# Altium footprint library PrISUm-Connectors.PcbLib: 40 footprints (part 1 of 3)
Each footprint in its own frame and in the unit in brackets; x right, y up, seen from the top. Pads: shape width x height; smd on the part's side, far side on the other; paste and mask are expansions set on the pad; w line width, h text height; cw(c..) or ccw(c..) is an arc to the next point about the centre after c.
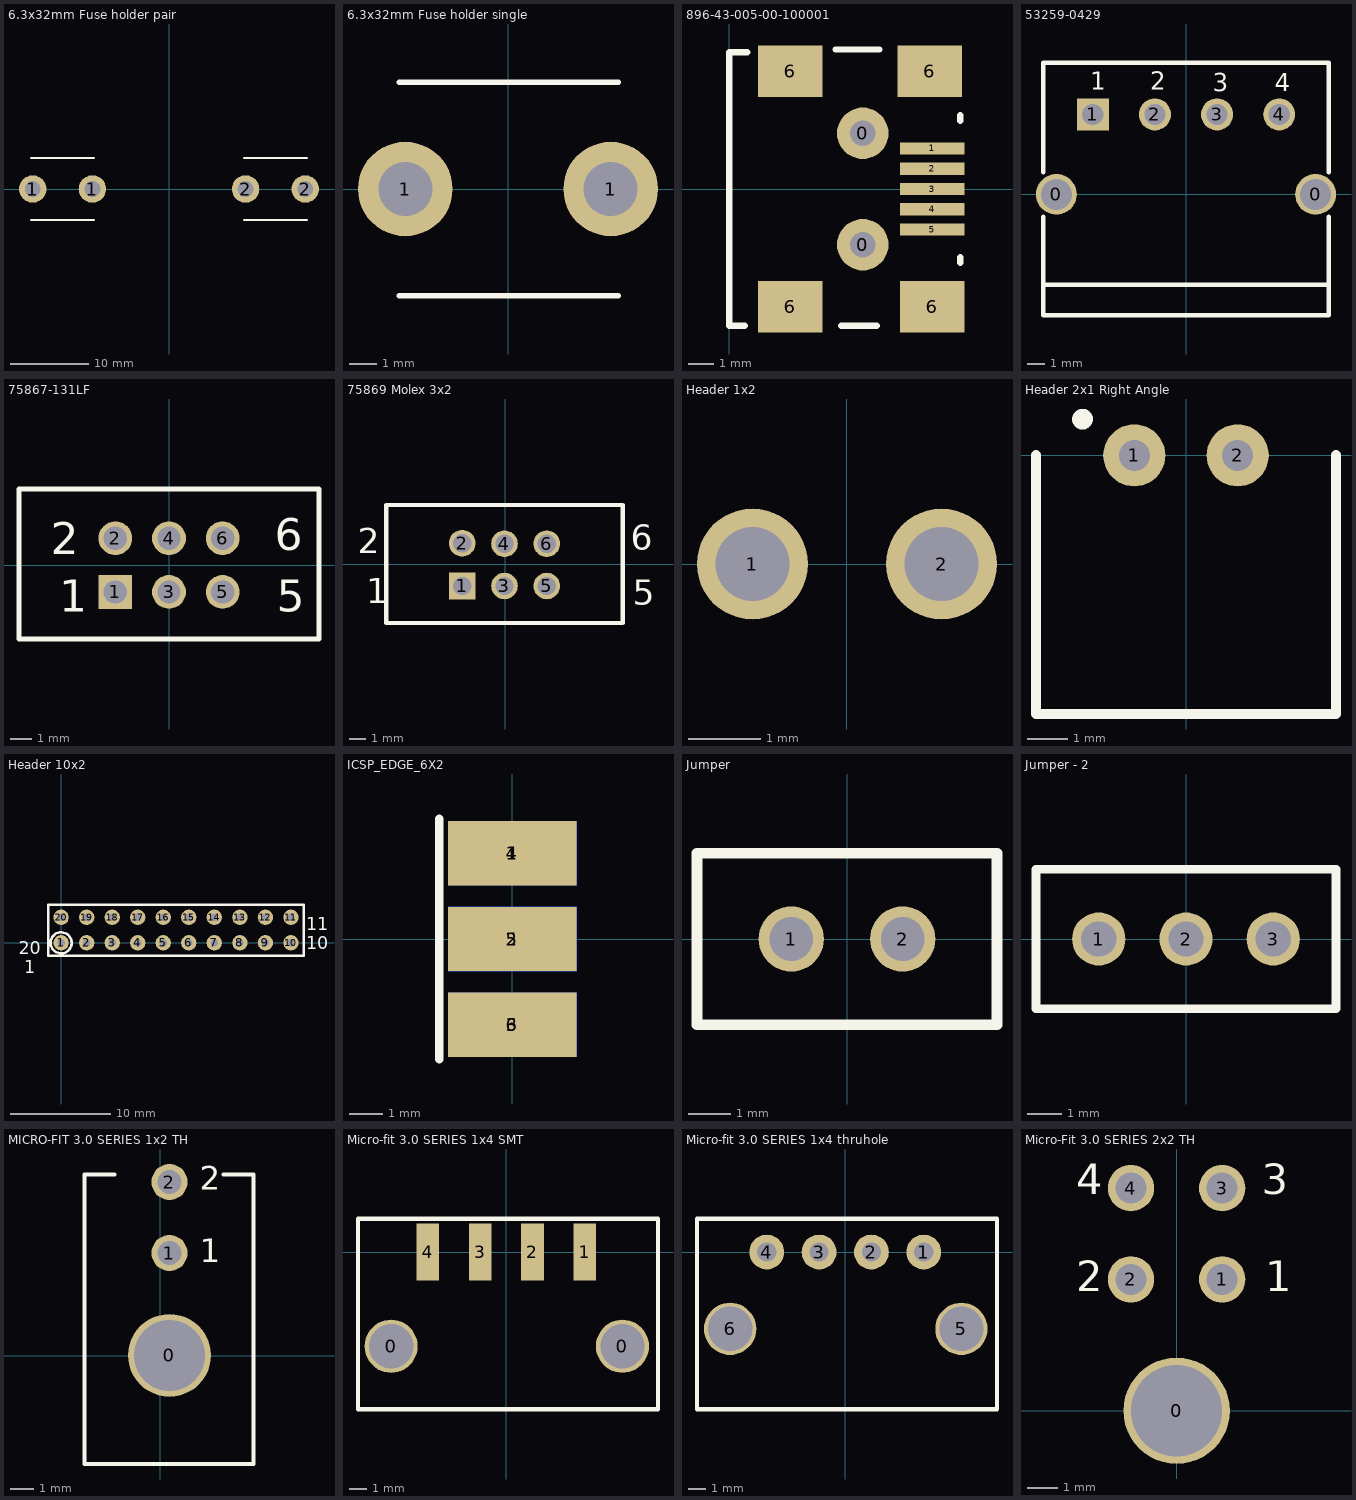
[diagram p0: the footprints below, top view; thin cyan lines are the x and y axes]

## 6.3x32mm Fuse holder pair [mm] "6.3x32mm Fuse holder complete set for 1 fuse"
height 10.9
pads (4):
  round 3.5 hole 2 mask+0.064: 1(-17.35,0) 1(-9.75,0) 2(9.75,0) 2(17.35,0)
Top Overlay:
  lines w0.2: -17.625,-3.95 -9.525,-3.95 ; -17.625,3.95 -9.525,3.95 ; 9.5,-3.95 17.6,-3.95 ; 9.5,3.95 17.6,3.95
3D body "6,3x32mm fuse holder.stp": height 10.93, standoff -3.07, extent 9.5,-3.95 17.6,3.95
3D body "6,3x32mm fuse holder.stp": height 10.93, standoff -3.07, extent -17.625,-3.95 -9.525,3.95

## 6.3x32mm Fuse holder single [mm] "6.3x32mm Fuse holder single, needs another to hold 1 fuse"
height 10.9
pads (2):
  round 3.5 hole 2 mask+0.064: 1(-3.8,0) 1(3.8,0)
Top Overlay:
  lines w0.2: -4.025,-3.95 4.075,-3.95 ; -4.025,3.95 4.075,3.95
3D body "6,3x32mm fuse holder.stp": height 10.93, standoff -3.07, extent -4.025,-3.95 4.075,3.95

## 896-43-005-00-100001 [mil] "CONN RECEPT MINI-USB TYPE A SMT"
pads (11):
  round 80 hole 40 unplated: 0(207,-86.5) 0(207,86.5)
  rect 100x19 smd: 1(314.96,62.99) 2(314.96,31.5) 3(314.96,0) 4(314.96,-31.5) 5(314.96,-62.99)
  rect 100x80 smd: 6(94.49,182.87) 6(94.49,-182.87) 6(311.02,182.87) 6(314.96,-182.87)
Top Overlay:
  lines w10: 23.62,-212.6 0,-212.6 0,212.6 27.56,212.6 ; 165.35,216.54 232.28,216.54 ; 173.23,-212.6 228.35,-212.6 ; 358.27,-114.17 358.27,-106.3 ; 358.27,106.3 358.27,114.17

## 53259-0429 [mm] "3.50mm Pitch Header, Right Angle, 4 Circuits"
height 7.9
pads (6):
  round 2.3 hole 1.75: 0(-7.3,0) 0(7.3,0)
  rect 1.8x1.8 hole 1.2: 1(-5.25,4.5)
  round 1.8 hole 1.2: 2(-1.75,4.5) 3(1.75,4.5) 4(5.25,4.5)
Top Overlay:
  lines w0.254: -8.05,-5.1 8.05,-5.1 ; -8.05,-1.25 -8.05,-6.8 8.05,-6.8 8.05,-1.25 ; -8.05,1.25 -8.05,7.4 8.05,7.4 8.05,1.25
  text "1" at -5.4,5.9 h1
  text "2" at -2,5.9 h1
  text "3" at 1.5,5.8 h1
  text "4" at 5,5.8 h1
3D body "532590429.stp": height 8.6, standoff -3.45, extent -8.03,-6.78 8.07,7.42

## 75867-131LF [mm] "CONN HEADER 6POS DUAL R/A PCB"
pads (6):
  rect 1.6x1.6 hole 1.1: 1(-2.54,-1.27)
  round 1.6 hole 1.1: 2(-2.54,1.27) 3(0,-1.27) 4(0,1.27) 5(2.54,-1.27) 6(2.54,1.27)
Top Overlay:
  lines w0.254: -7.1,-3.5 -7.1,3.6 7.1,3.6 7.1,-3.5 -7.1,-3.5
  text "2" at -5.6,0.5 h1.52
  text "6" at 5,0.7 h1.52
  text "1" at -5.2,-2.2 h1.52
  text "5" at 5.1,-2.2 h1.52
3D body "75867-131lf.stp": height 9.3, standoff -3.04, extent -7.415,-1.6 7.415,12.37

## 75869 Molex 3x2 [mm]
pads (6):
  rect 1.6x1.6 hole 1.1: 1(-2.58,-1.29)
  round 1.6 hole 1.1: 2(-2.58,1.28) 3(-0.04,-1.29) 4(-0.04,1.25) 5(2.5,-1.29) 6(2.5,1.25)
Top Overlay:
  lines w0.254: -7.14,-3.52 -7.14,3.58 7.06,3.58 7.06,-3.52 -7.14,-3.52
  text "2" at -8.84,0.68 h1.52
  text "6" at 7.56,0.88 h1.52
  text "1" at -8.34,-2.32 h1.52
  text "5" at 7.66,-2.42 h1.52
3D body "75869-131lf.stp": height 9.39, standoff -2.98, extent -7.455,-4.42 7.375,4.85

## Header 1x2 [mil] "0.1in pitch"
pads (2):
  round 60 hole 40: 1(-51.18,0) 2(51.18,0)

## Header 2x1 Right Angle [mil]
height 275.59
pads (2):
  round 60 hole 30: 1(-50,0) 2(50,0)
Top Overlay:
  circle w10: c-100,35 r5
  lines w10: -145,0 -145,-250 145,-250 145,0
3D body "2x1 molex right angle.stp": height 268.27, standoff -136.73, extent -145,-510 145,25

## Header 10x2 [mil]
height 334.65
pads (20):
  round 60 hole 30: 1(0,0) 2(100,0) 3(200,0) 4(300,0) 5(400,0) 6(500,0) 7(600,0) 8(700,0) 9(800,0) 10(900,0) 11(900,100) 12(800,100) 13(700,100) 14(600,100) 15(500,100) 16(400,100) 17(300,100) 18(200,100) 19(100,100) 20(0,100)
Top Overlay:
  circle w10: c0,0 r41.23
  lines w10: -50,-50 0,-50 950,-50 950,150 -50,150 -50,-50
  text "20 /  1" at -165,-120 h50
  text "11 / 10" at 960,-25 h50
3D body "Header Female 1x10.STEP": height 338.8, standoff -128.72, extent -75,-43.72 948.62,53.72
3D body "Header Female 1x10.STEP": height 338.8, standoff -128.72, extent -75,56.28 948.62,153.72

## ICSP_EDGE_6X2 [mm]
pads (6):
  rect 3.81x1.905 smd: 1(0,2.54) 2(0,0) 3(0,-2.54)
  rect 3.81x1.905 smd far side: 4(0,2.54) 5(0,0) 6(0,-2.54)
Top Overlay:
  lines w0.254: -2.159,-3.556 -2.159,3.556
3D body "05_ HEADER-2WAY-1ROW-2.54MM-VERTICAL-PCB.STEP": height 1.65, standoff -3.43, extent -10.85,-3.81 0.69,-1.27
3D body "05_ HEADER-2WAY-1ROW-2.54MM-VERTICAL-PCB.STEP": height 1.65, standoff -3.43, extent -10.85,-1.27 0.69,1.27
3D body "05_ HEADER-2WAY-1ROW-2.54MM-VERTICAL-PCB.STEP": height 1.65, standoff -3.43, extent -10.85,1.27 0.69,3.81

## Jumper [mil] "0.1in pitch"
pads (2):
  round 60 hole 40: 1(-51.18,0) 2(51.18,0)
Top Overlay:
  lines w10: -137.8,-78.74 -137.8,62.99 -137.8,78.74 137.8,78.74 137.8,-78.74 -137.8,-78.74

## Jumper - 2 [mil] "0.1in pitch, double throw"
pads (3):
  round 60 hole 40: 1(-98.43,0) 2(0,0) 3(98.43,0)
Top Overlay:
  lines w10: -169.29,-78.74 -169.29,31.5 -169.29,78.74 169.29,78.74 169.29,-78.74 -169.29,-78.74
3D body "Pin Header 1x3 TH Pitch 2.54mm.stp": height 373.85, standoff -125.98, extent -151.57,-50 148.43,50

## MICRO-FIT 3.0 SERIES 1x2 TH [mm]
pads (3):
  round 3.5 hole 3: 0(0.391,0.01)
  round 1.524 hole 1.02: 1(0.391,4.33) 2(0.391,7.33)
Top Overlay:
  lines w0.152: -1.93,7.65 -3.2,7.65 -3.2,-4.58 3.94,-4.58 3.94,7.65 2.67,7.65
  text "2" at 1.661,6.995 h1
  text "1" at 1.661,3.947 h1
3D body "MicroFit 3.0 1x2.stp": height 8.83, standoff -3.12, extent -3.203,-4.586 3.947,7.654

## Micro-fit 3.0 SERIES 1x4 SMT [mm] "Right angle"
height 5.57
pads (6):
  round 3.048 hole 2.54 unplated: 0(-6.6,-5.4) 0(6.66,-5.4)
  rect 1.3x3.25 smd mask+0.064: 1(4.5,0)
  rect 1.3x3.25 smd: 2(1.5,0) 3(-1.5,0) 4(-4.5,0)
Top Overlay:
  lines w0.254: -8.5,-9 8.7,-9 8.7,1.9 -8.5,1.9 -8.5,-9
3D body "436500409.stp": height 5.68, standoff -1.91, extent -7.725,-10.1 7.925,0.8

## Micro-fit 3.0 SERIES 1x4 thruhole [mm] "Right angle"
height 5.57
pads (6):
  round 2 hole 1.1: 1(4.5,0) 2(1.5,0) 3(-1.5,0) 4(-4.5,0)
  round 3 hole 2.54 unplated: 5(6.66,-4.4) 6(-6.6,-4.4)
Top Overlay:
  lines w0.254: -8.5,-9 8.7,-9 8.7,1.9 -8.5,1.9 -8.5,-9
3D body "436500403.stp": height 5.55, standoff -3.2, extent -7.825,-8.9 7.825,1

## Micro-Fit 3.0 SERIES 2x2 TH [mm]
pads (5):
  round 3.5 hole 3: 0(0,0)
  round 1.524 hole 1.02: 1(1.5,4.32) 2(-1.5,4.32) 3(1.5,7.32) 4(-1.5,7.32)
Top Overlay:
  text "1" at 2.921,3.937 h1
  text "2" at -3.302,3.937 h1
  text "3" at 2.794,7.112 h1
  text "4" at -3.302,7.112 h1
3D body "MicroFit 3.0 2x2 TH.stp": height 8.83, standoff -3.12, extent -5.075,-4.696 5.075,7.544